# Altium footprint library TO-247.PcbLib: 1 footprints
Each footprint in its own frame and in the unit in brackets; x right, y up, seen from the top. Pads: shape width x height; smd on the part's side, far side on the other; paste and mask are expansions set on the pad; w line width, h text height; cw(c..) or ccw(c..) is an arc to the next point about the centre after c.
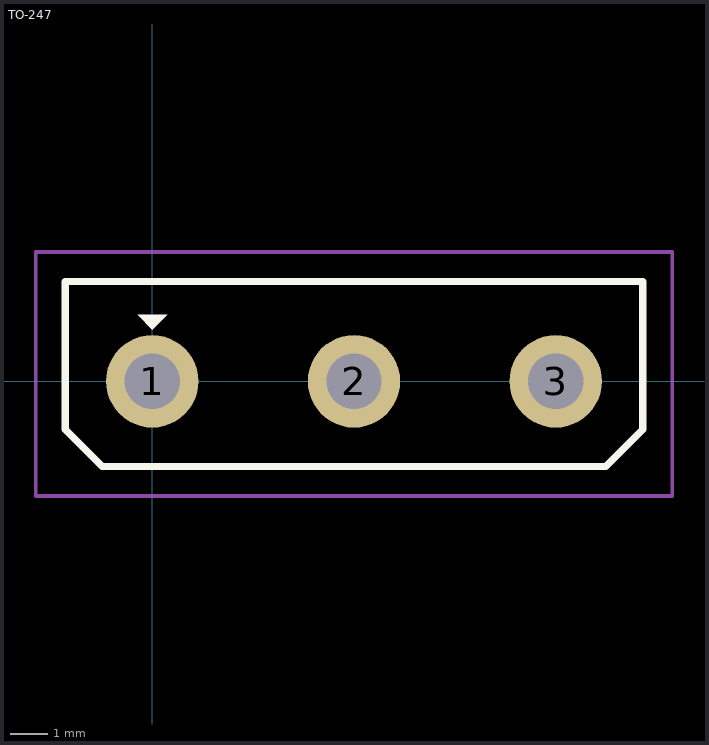
[diagram p0: the footprint, top view; thin cyan lines are the x and y axes]

## TO-247 [mm]
pads (3):
  round 2.5 hole 1.5: 1(0,0) 2(5.45,0) 3(10.9,0)
Top Overlay:
  region: -0.4,1.8 0.4,1.8 0,1.4
  lines w0.2: -2.35,-1.3 -2.35,2.7 13.25,2.7 13.25,-1.3 12.25,-2.3 -1.35,-2.3 -2.35,-1.3
Top Courtyard:
  lines w0.1: -3.15,-3.1 -3.15,3.5 14.05,3.5 14.05,-3.1 -1.35,-3.1 -3.15,-3.1
3D body "SPW47N60C3X.STEP": height 25.1, standoff -10, extent -2.35,-2.3 13.25,2.7